# Altium schematic symbol library MAX2682.Schlib: 1 symbol
Pins are listed as number, name and electrical type; pins without a type are passive.

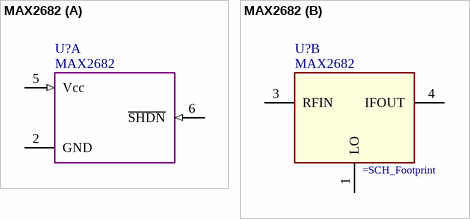
[diagram p0: symbol MAX2682]

## MAX2682
designator U?
part A pins: 2 GND (power), 5 Vcc (in), 6 ~{SHDN} (in)
part B pins: 1 LO, 3 RFIN, 4 IFOUT
2 alternate drawings of the same symbol